# Altium footprint library Divers_goldo.PcbLib: 5 footprints
Each footprint in its own frame and in the unit in brackets; x right, y up, seen from the top. Pads: shape width x height; smd on the part's side, far side on the other; paste and mask are expansions set on the pad; w line width, h text height; cw(c..) or ccw(c..) is an arc to the next point about the centre after c.
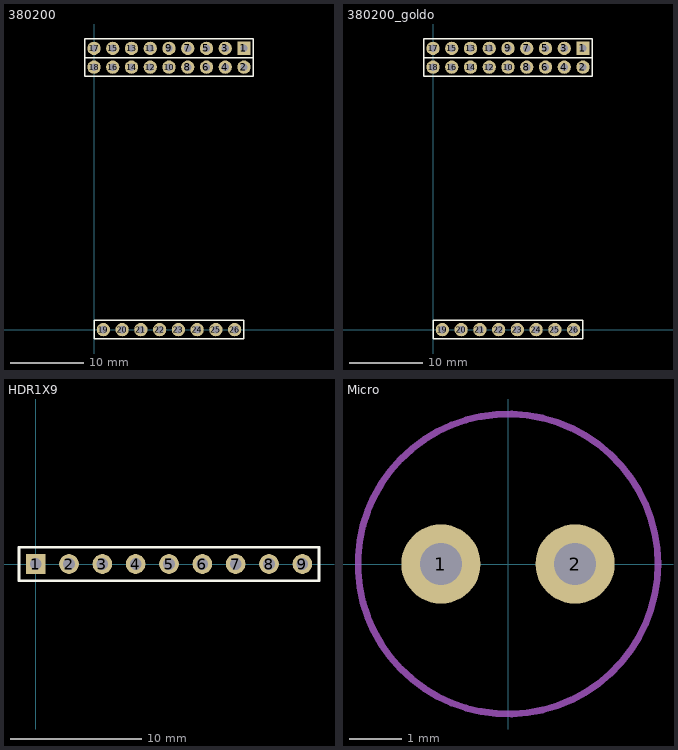
[diagram p0: the footprints below, top view; thin cyan lines are the x and y axes]

## 380200 [mm] "MAXON"
pads (26):
  rect 1.8x1.8 hole 1: 1(20.32,38.1)
  round 1.8 hole 1: 2(20.32,35.56) 3(17.78,38.1) 4(17.78,35.56) 5(15.24,38.1) 6(15.24,35.56) 7(12.7,38.1) 8(12.7,35.56) 9(10.16,38.1) 10(10.16,35.56) 11(7.62,38.1) 12(7.62,35.56) 13(5.08,38.1) 14(5.08,35.56) 15(2.54,38.1) 16(2.54,35.56) 17(0,38.1) 18(0,35.56) 19(1.27,0) 20(3.81,0) 21(6.35,0) 22(8.89,0) 23(11.43,0) 24(13.97,0) 25(16.51,0) 26(19.05,0)
Top Overlay:
  lines w0.2: -1.27,36.83 -1.27,34.29 21.59,34.29 21.59,36.83 ; -1.27,36.83 21.59,36.83 ; -1.27,36.83 21.59,36.83 ; -1.27,36.83 -1.27,39.37 21.59,39.37 21.59,36.83 ; 0,-1.27 20.32,-1.27 20.32,1.27 0,1.27 0,-1.27

## 380200_goldo [mm] "MAXON"
pads (26):
  rect 1.8x1.8 hole 1: 1(20.32,38.1)
  round 1.8 hole 1: 2(20.32,35.56) 3(17.78,38.1) 4(17.78,35.56) 5(15.24,38.1) 6(15.24,35.56) 7(12.7,38.1) 8(12.7,35.56) 9(10.16,38.1) 10(10.16,35.56) 11(7.62,38.1) 12(7.62,35.56) 13(5.08,38.1) 14(5.08,35.56) 15(2.54,38.1) 16(2.54,35.56) 17(0,38.1) 18(0,35.56) 19(1.27,0) 20(3.81,0) 21(6.35,0) 22(8.89,0) 23(11.43,0) 24(13.97,0) 25(16.51,0) 26(19.05,0)
Top Overlay:
  lines w0.2: -1.27,36.83 -1.27,34.29 21.59,34.29 21.59,36.83 ; -1.27,36.83 21.59,36.83 ; -1.27,36.83 21.59,36.83 ; -1.27,36.83 -1.27,39.37 21.59,39.37 21.59,36.83 ; 0,-1.27 20.32,-1.27 20.32,1.27 0,1.27 0,-1.27
3D body: height 0, standoff 0, extent -1.269,36.831 21.589,39.369
3D body: height 0, standoff 0, extent -1.269,34.291 21.589,36.829
3D body: height 0, standoff 0, extent 0.001,-1.269 20.319,1.269

## HDR1X9 [mm]
pads (9):
  rect 1.5x1.5 hole 0.9: 1(0,0)
  round 1.5 hole 0.9: 2(2.54,0) 3(5.08,0) 4(7.62,0) 5(10.16,0) 6(12.7,0) 7(15.24,0) 8(17.78,0) 9(20.32,0)
Top Overlay:
  lines w0.2: -1.27,-1.27 -1.27,1.27 21.59,1.27 21.59,-1.27 -1.27,-1.27

## Micro [mm]
pads (2):
  round 1.5 hole 0.8: 1(-1.27,0) 2(1.27,0)
Mechanical 13:
  circle w0.127: c0,0 r2.84

## PCB380200 [mm] "PCB for Maxon"